# Altium footprint library LOGO.PcbLib: 5 footprints
Each footprint in its own frame and in the unit in brackets; x right, y up, seen from the top. Pads: shape width x height; smd on the part's side, far side on the other; paste and mask are expansions set on the pad; w line width, h text height; cw(c..) or ccw(c..) is an arc to the next point about the centre after c.
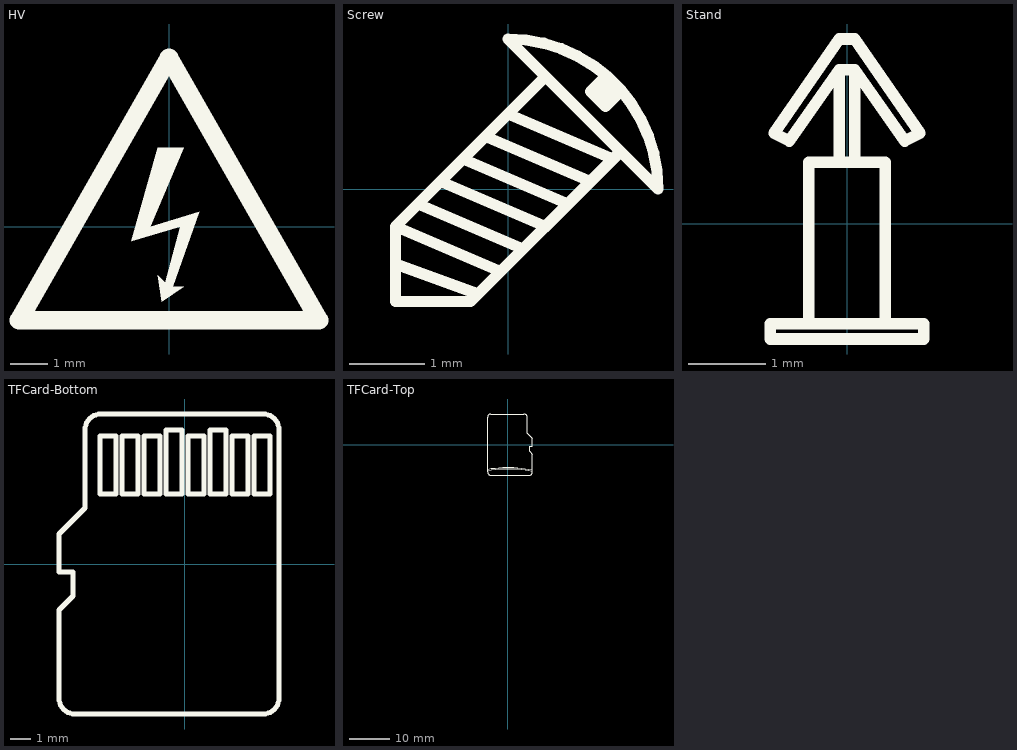
[diagram p0: the footprints below, top view; thin cyan lines are the x and y axes]

## HV [mm]
Top Overlay:
  region: -0.3,2.1 -1,-0.4 0.3,0 -0.1,-1.5 -0.3,-1.3 -0.2,-2 0.4,-1.6 0.1,-1.6 0.8,0.4 -0.5,0 0.4,2.1
  lines w0.5: -4,-2.5 4,-2.5 0,4.5 -4,-2.5

## Screw [mm]
Top Overlay:
  lines w0.15: -1.5,-1 -0.4,-1.4 ; -1.2,-0.2 0.2,-0.8 ; -0.9,0.1 0.5,-0.5 ; -0.6,0.4 0.8,-0.2 ; -0.3,0.7 1.1,0.1 ; -0.1,-1.1 -1.5,-0.5 ; 0,1 1.4,0.4 ; 0.5,1.5 -1.5,-0.5 ; 1.2,1.2 1.4,1.2 ; 1.2,1.4 1.4,1.4 ; 1.3,1.5 1.1,1.3 ; 1.45,0.45 -0.5,-1.5 -1.5,-1.5 -1.5,-0.5 ; 1.1,1.3 1.3,1.1 1.5,1.3 1.1,1.3 ; 0,2 cw(c0,0) 2,0 0,2

## Stand [mm]
Top Overlay:
  lines w0.15: -0.5,-1.3 -0.5,0.8 0.5,0.8 0.5,-1.3 ; -0.1,0.8 -0.1,2 ; 0.1,0.8 0.1,2 ; -0.1,2 -0.748,1.074 -0.949,1.174 -0.1,2.4 0.1,2.4 0.949,1.174 0.748,1.074 0.1,2 ; -0.1,2 0.1,2 ; -1,-1.5 -1,-1.3 1,-1.3 1,-1.5 -1,-1.5

## TFCard-Bottom [mm]
Top Overlay:
  lines w0.25: -6.3,-6.7 ccw(c-5.5,-6.7) -5.5,-7.5 3.9,-7.5 ccw(c3.9,-6.7) 4.7,-6.7 4.7,6.7 ccw(c3.9,6.7) 3.9,7.5 -4.2,7.5 ccw(c-4.2,6.7) -5,6.7 -5,2.8 -6.3,1.5 -6.3,-0.4 -5.6,-0.4 -5.6,-1.6 -6.3,-2.3 -6.3,-6.7 ; -4.25,3.5 -4.25,6.4 -3.45,6.4 -3.45,3.5 -4.25,3.5 ; -3.15,3.5 -3.15,6.4 -2.35,6.4 -2.35,3.5 -3.15,3.5 ; -2.05,3.5 -2.05,6.4 -1.25,6.4 -1.25,3.5 -2.05,3.5 ; -0.95,3.5 -0.95,6.7 -0.15,6.7 -0.15,3.5 -0.95,3.5 ; 0.15,3.5 0.15,6.4 0.95,6.4 0.95,3.5 0.15,3.5 ; 1.25,3.5 1.25,6.7 2.05,6.7 2.05,3.5 1.25,3.5 ; 2.35,3.5 2.35,6.4 3.15,6.4 3.15,3.5 2.35,3.5 ; 3.45,3.5 3.45,6.4 4.25,6.4 4.25,3.5 3.45,3.5

## TFCard-Top [mm]
Top Overlay:
  lines w0.25: -5,-6.401 cw(c0.003,-35.981) 6.003,-6.588 ; -5,-6.101 cw(c0.003,-35.681) 6.003,-6.288 ; -5,-6.7 ccw(c-4.2,-6.7) -4.2,-7.5 5.2,-7.5 ccw(c5.2,-6.7) 6,-6.7 6,-2.3 5.3,-1.6 5.3,-0.4 6,-0.4 6,1.5 4.7,2.8 4.7,6.7 ccw(c3.9,6.7) 3.9,7.5 -4.2,7.5 ccw(c-4.2,6.7) -5,6.7 -5,-6.7